# Altium footprint library OPL_Circuit_Protection.PCBLIB: 2 footprints
Each footprint in its own frame and in the unit in brackets; x right, y up, seen from the top. Pads: shape width x height; smd on the part's side, far side on the other; paste and mask are expansions set on the pad; w line width, h text height; cw(c..) or ccw(c..) is an arc to the next point about the centre after c.
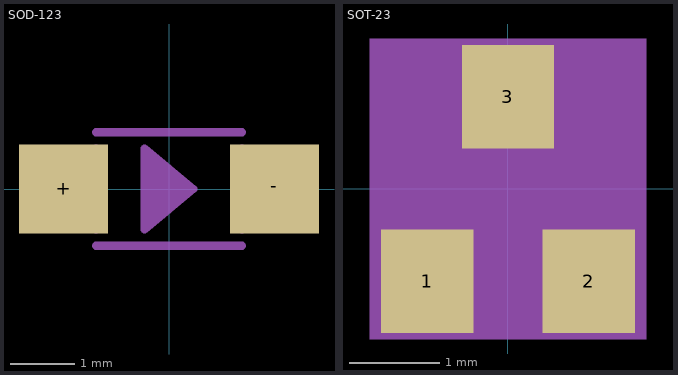
[diagram p0: the footprints below, top view; thin cyan lines are the x and y axes]

## SOD-123 [mil]
pads (2):
  rect 55x55 smd: +(-65,0) -(65,0)
Mechanical 2:
  lines w5: -45,-35 45,-35 ; -45,35 45,35 ; -5,0 -5,5 ; -15,-20 -15,-25 15,0 ; -15,-20 -15,-15 ; -15,-20 15,0 ; -15,-20 -10,20 10,0 -15,-15 ; -15,-15 -15,25 15,0 ; -15,-15 -10,15 5,0 -10,-10 -10,-5 ; -10,-5 -10,10 -5,5 ; -10,-5 0,0 -5,5 ; -10,-5 -5,5
Mechanical 8:
  region: 76.77,17.72 76.77,-15.75 47.24,-15.75 47.24,17.72
  region: -47.24,17.72 -47.24,-15.75 -76.77,-15.75 -76.77,17.72
  lines w5: -45,-25 -45,25 ; 45,-25 45,25

## SOT-23 [mil]
pads (3):
  rect 40x45 smd: 1(-35,-40) 2(35,-40) 3(0,40)
Mechanical 2:
  lines w5: -57.5,-10 -57.5,25 -27.5,25 ; -7.5,-25 7.5,-25 ; 27.5,25 57.5,25 57.5,-10
Mechanical 8:
  region: -9,28 -9,51 9,51 9,28
  region: 28,-51 28,-28 46,-28 46,-51
  region: -46,-51 -46,-28 -28,-28 -28,-51
Mech34:
  region: -60,-65 -60,65 60,65 60,-65